# EAGLE library part ONIX-FRAME (library IoTMakers)
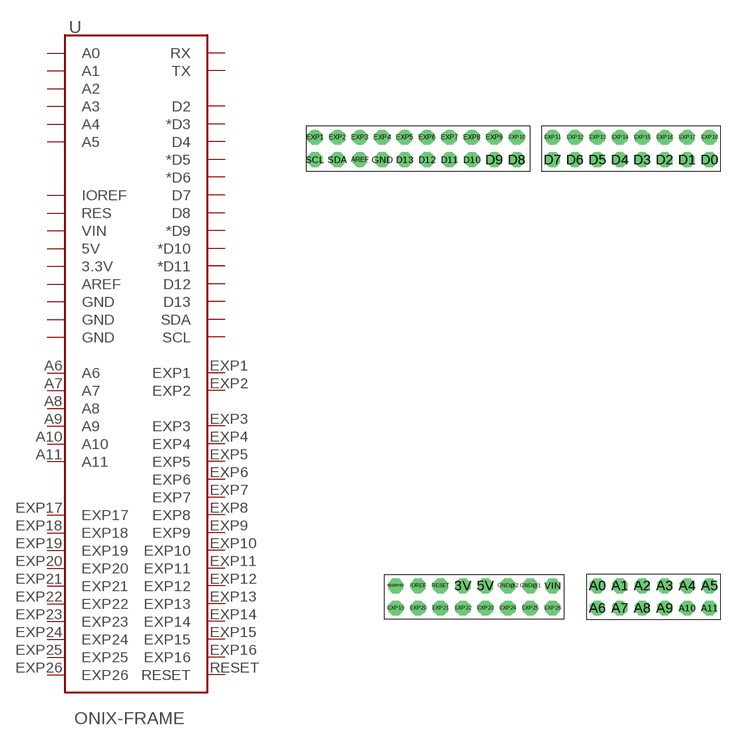
[diagram p2: symbol with the pads of ONIX32; footprint ONIX32]

Designator prefix -

## ONIX-FRAME  [ONIX32]
3V  3.3V
5V  5V
A0  A0
A1  A1
A2  A2
A3  A3
A4  A4
A5  A5
A6  A6
A7  A7
A8  A8
A9  A9
A10  A10
A11  A11
AREF  AREF
D0  RX
D1  TX
D2  D2
D3  *D3
D4  D4
D5  *D5
D6  *D6
D7  D7
D8  D8
D9  *D9
D10  *D10
D11  *D11
D12  D12
D13  D13
EXP1  EXP1
EXP2  EXP2
EXP3  EXP3
EXP4  EXP4
EXP5  EXP5
EXP6  EXP6
EXP7  EXP7
EXP8  EXP8
EXP9  EXP9
EXP10  EXP10
EXP11  EXP11
EXP12  EXP12
EXP13  EXP13
EXP14  EXP14
EXP15  EXP15
EXP16  EXP16
EXP17  EXP17
EXP18  EXP18
EXP19  EXP19
EXP20  EXP20
EXP21  EXP21
EXP22  EXP22
EXP23  EXP23
EXP24  EXP24
EXP25  EXP25
EXP26  EXP26
GND  GND
GND@1  GND
GND@2  GND
IOREF  IOREF
RESERVED  RES
RESET  RESET
SCL  SCL
SDA  SDA
VIN  VIN

## Footprint ONIX32 (pad centres in mm)
drill 1 pad 1.676 octagon: 3V 35.56,2.54; 5V 38.1,2.54; A0 50.8,2.54; A1 53.34,2.54; A2 55.88,2.54; A3 58.42,2.54; A4 60.96,2.54; A5 63.5,2.54; A6 50.8,0; A7 53.34,0; A8 55.88,0; A9 58.42,0; A10 60.96,0; A11 63.5,0; AREF 23.876,50.8; D0 63.5,50.8; D1 60.96,50.8; D2 58.42,50.8; D3 55.88,50.8; D4 53.34,50.8; D5 50.8,50.8; D6 48.26,50.8; D7 45.72,50.8; D8 41.656,50.8; D9 39.116,50.8; D10 36.576,50.8; D11 34.036,50.8; D12 31.496,50.8; D13 28.956,50.8; EXP1 18.796,53.34; EXP2 21.336,53.34; EXP3 23.876,53.34; EXP4 26.416,53.34; EXP5 28.956,53.34; EXP6 31.496,53.34; EXP7 34.036,53.34; EXP8 36.576,53.34; EXP9 39.116,53.34; EXP10 41.656,53.34; EXP11 45.72,53.34; EXP12 48.26,53.34; EXP13 50.8,53.34; EXP14 53.34,53.34; EXP15 55.88,53.34; EXP16 58.42,53.34; EXP17 60.96,53.34; EXP18 63.5,53.34; EXP19 27.94,0; EXP20 30.48,0; EXP21 33.02,0; EXP22 35.56,0; EXP23 38.1,0; EXP24 40.64,0; EXP25 43.18,0; EXP26 45.72,0; GND 26.416,50.8; GND@1 43.18,2.54; GND@2 40.64,2.54; IOREF 30.48,2.54; RESERVED 27.94,2.54; RESET 33.02,2.54; SCL 18.796,50.8; SDA 21.336,50.8; VIN 45.72,2.54